# Altium schematic symbol library TLV1117.SchLib: 1 symbol
Pins are listed as number, name and electrical type; pins without a type are passive.

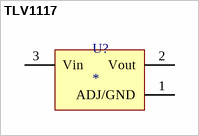
[diagram p0: symbol TLV1117]

## TLV1117
designator U?
ADJUSTABLE AND FIXED LOW-DROPOUT VOLTAGE REGULATOR; Manufacturer: Texas Instruments; Part No.: TLV1117CDCYR; Vendor: Digi-Key; Price Est.: $0.64
footprint SOT-223 P2T (SOT-223 PIN 2 => TAB)
pins: 1 ADJ/GND, 2 Vout, 3 Vin